# Altium footprint library LED.PcbLib: 1 footprints
Each footprint in its own frame and in the unit in brackets; x right, y up, seen from the top. Pads: shape width x height; smd on the part's side, far side on the other; paste and mask are expansions set on the pad; w line width, h text height; cw(c..) or ccw(c..) is an arc to the next point about the centre after c.
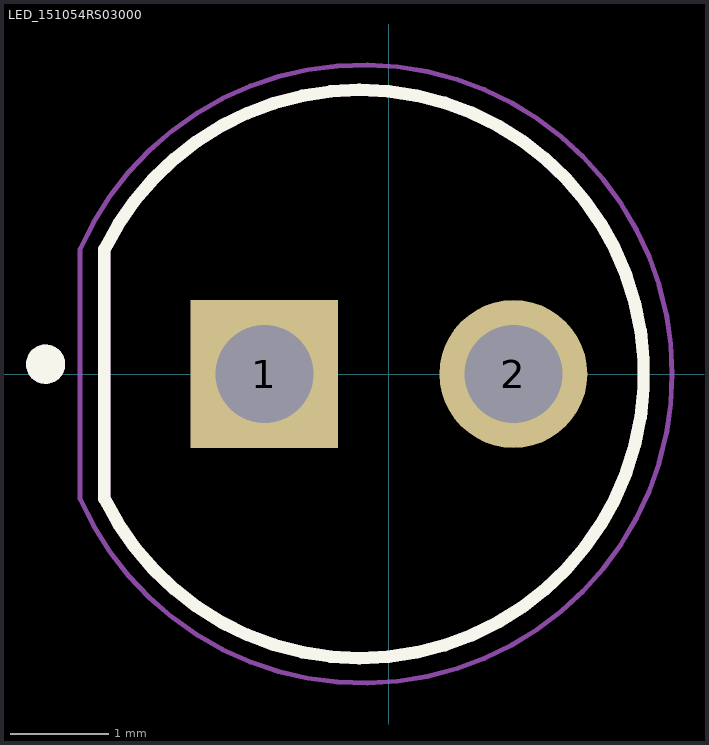
[diagram p0: the footprint, top view; thin cyan lines are the x and y axes]

## LED_151054RS03000 [mm]
pads (2):
  rect 1.508x1.508 hole 1: 1(-1.27,0)
  round 1.508 hole 1: 2(1.27,0)
Top Overlay:
  circle w0.2: c-3.5,0.1 r0.1
  lines w0.127: -2.9,-1.27 ccw(c-0.296,0) -2.9,1.27 -2.9,-1.27
Mechanical 13:
  circle w0.2: c-3.5,0.1 r0.1
  lines w0.127: -2.9,-1.27 ccw(c-0.296,0) -2.9,1.27 -2.9,-1.27
Mechanical 15:
  lines w0.05: -3.15,-1.27 -3.15,1.27 ; -3.144,-1.283 ccw(c-0.264,0) -3.144,1.283
3D body "led.STEP": height 12.1, standoff -23.4, extent -2.56,-2.925 2.85,2.875